# Altium footprint library FC1-5211.PcbLib: 1 footprints
Each footprint in its own frame and in the unit in brackets; x right, y up, seen from the top. Pads: shape width x height; smd on the part's side, far side on the other; paste and mask are expansions set on the pad; w line width, h text height; cw(c..) or ccw(c..) is an arc to the next point about the centre after c.
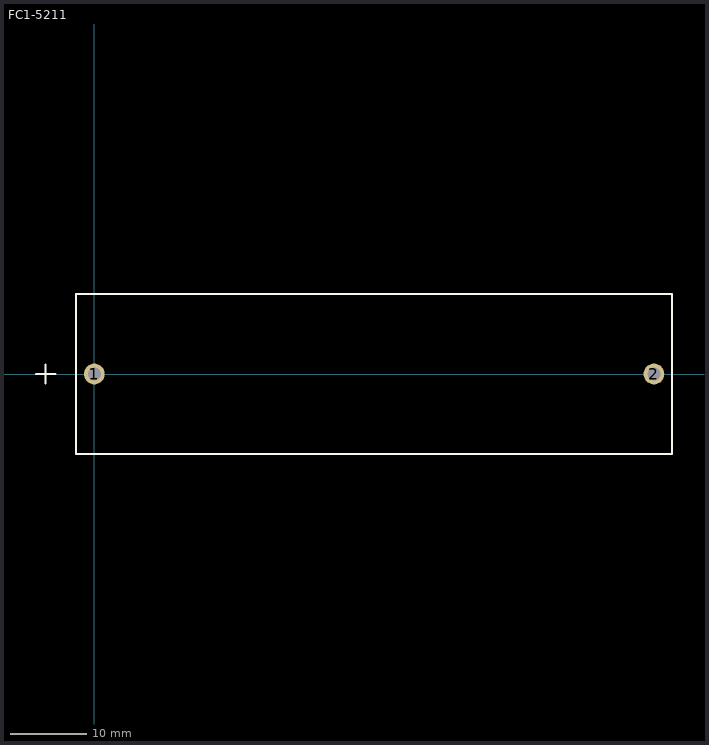
[diagram p0: the footprint, top view; thin cyan lines are the x and y axes]

## FC1-5211 [mm] "Батарейный отсек"
pads (2):
  round 2.7 hole 1.7: 1(0,0) 2(72.898,0)
Top Overlay:
  lines w0.254: -7.62,0 -5.08,0 ; -6.35,-1.27 -6.35,1.27 ; -2.379,-10.4 75.271,-10.4 75.271,10.4 -2.379,10.4 -2.379,-10.4
TopAssy:
  lines w0.254: -2.379,-10.4 75.271,-10.4 75.271,10.4 -2.379,10.4 -2.379,-10.4
3D body "User Library-18650 Full.STEP": height 21.65, standoff -3.83, extent -2.379,-10.4 75.271,10.4